# EAGLE library part HOST-CONNECTOR (library MH-Anybus)
Host Connector Der Host Connector ist eine um 90° gewinkelte Pinleiste mit 50 Pins. Er erlaubt das implemenieren von Modulen der CompactCom M30 und M40 Reihe von Anybus auf eine Leiterplatte.
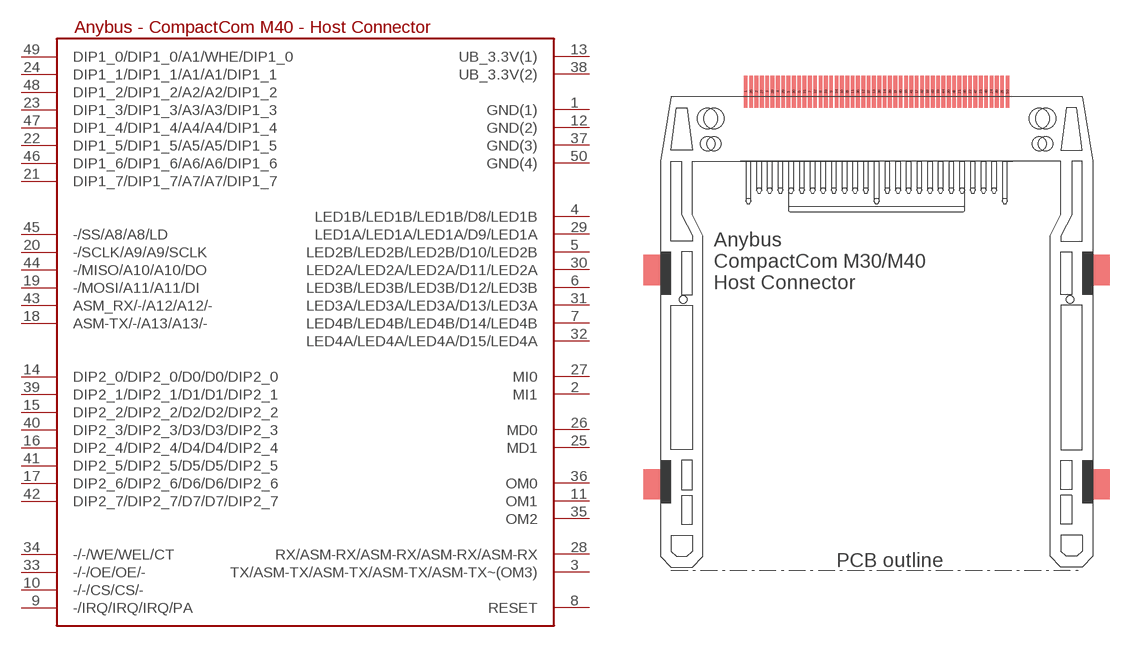
[diagram p0: symbol with the pads of HOST-CONNECTOR; footprint HOST-CONNECTOR]

Designator prefix -

## HOST-CONNECTOR  [HOST-CONNECTOR]
1  GND(1)  sup
2  MI1  out
3  TX/ASM-TX/ASM-TX/ASM-TX/ASM-TX~(OM3)  out
4  LED1B/LED1B/LED1B/D8/LED1B
5  LED2B/LED2B/LED2B/D10/LED2B
6  LED3B/LED3B/LED3B/D12/LED3B
7  LED4B/LED4B/LED4B/D14/LED4B
8  RESET  in
9  -/IRQ/IRQ/IRQ/PA  out
10  -/-/CS/CS/-  in
11  OM1  in
12  GND(2)  sup
13  UB_3.3V(1)  sup
14  DIP2_0/DIP2_0/D0/D0/DIP2_0
15  DIP2_2/DIP2_2/D2/D2/DIP2_2
16  DIP2_4/DIP2_4/D4/D4/DIP2_4
17  DIP2_6/DIP2_6/D6/D6/DIP2_6
18  ASM-TX/-/A13/A13/-
19  -/MOSI/A11/A11/DI  in
20  -/SCLK/A9/A9/SCLK
21  DIP1_7/DIP1_7/A7/A7/DIP1_7  in
22  DIP1_5/DIP1_5/A5/A5/DIP1_5  in
23  DIP1_3/DIP1_3/A3/A3/DIP1_3  in
24  DIP1_1/DIP1_1/A1/A1/DIP1_1  in
25  MD1  out
26  MD0  out
27  MI0  out
28  RX/ASM-RX/ASM-RX/ASM-RX/ASM-RX  in
29  LED1A/LED1A/LED1A/D9/LED1A
30  LED2A/LED2A/LED2A/D11/LED2A
31  LED3A/LED3A/LED3A/D13/LED3A
32  LED4A/LED4A/LED4A/D15/LED4A
33  -/-/OE/OE/-  in
34  -/-/WE/WEL/CT
35  OM2  in
36  OM0  in
37  GND(3)  sup
38  UB_3.3V(2)  sup
39  DIP2_1/DIP2_1/D1/D1/DIP2_1
40  DIP2_3/DIP2_3/D3/D3/DIP2_3
41  DIP2_5/DIP2_5/D5/D5/DIP2_5
42  DIP2_7/DIP2_7/D7/D7/DIP2_7
43  ASM_RX/-/A12/A12/-  in
44  -/MISO/A10/A10/DO
45  -/SS/A8/A8/LD  in
46  DIP1_6/DIP1_6/A6/A6/DIP1_6  in
47  DIP1_4/DIP1_4/A4/A4/DIP1_4  in
48  DIP1_2/DIP1_2/A2/A2/DIP1_2  in
49  DIP1_0/DIP1_0/A1/WHE/DIP1_0  in
50  GND(4)  sup

## Footprint HOST-CONNECTOR (pad centres in mm)
Host Connector Der Host Connector ist eine um 90° gewinkelte Pinleiste mit 50 Pins. Er erlaubt das implemenieren von Modulen der CompactCom M30 und M40 Reihe von Anybus auf eine Leiterplatte.
smd 0.45 x 3.8: 1 0,-1.905; 2 1.27,-1.905; 3 2.54,-1.905; 4 3.81,-1.905; 5 5.08,-1.905; 6 6.35,-1.905; 7 7.62,-1.905; 8 8.89,-1.905; 9 10.16,-1.905; 10 11.43,-1.905; 11 12.7,-1.905; 12 13.97,-1.905; 13 15.24,-1.905; 14 16.51,-1.905; 15 17.78,-1.905; 16 19.05,-1.905; 17 20.32,-1.905; 18 21.59,-1.905; 19 22.86,-1.905; 20 24.13,-1.905; 21 25.4,-1.905; 22 26.67,-1.905; 23 27.94,-1.905; 24 29.21,-1.905; 25 30.48,-1.905; 26 0.635,-1.905; 27 1.905,-1.905; 28 3.175,-1.905; 29 4.445,-1.905; 30 5.715,-1.905; 31 6.985,-1.905; 32 8.255,-1.905; 33 9.525,-1.905; 34 10.795,-1.905; 35 12.065,-1.905; 36 13.335,-1.905; 37 14.605,-1.905; 38 15.875,-1.905; 39 17.145,-1.905; 40 18.415,-1.905; 41 19.685,-1.905; 42 20.955,-1.905; 43 22.225,-1.905; 44 23.495,-1.905; 45 24.765,-1.905; 46 26.035,-1.905; 47 27.305,-1.905; 48 28.575,-1.905; 49 29.845,-1.905; 50 31.115,-1.905
hole 1.7 at 34.907,-8.1
hole 1.7 at 35.657,-8.1
hole 2.4 at 34.907,-5.1
hole 2.4 at 35.657,-5.1
hole 1.7 at 35.657,-8.1
hole 1.7 at 34.907,-8.1
hole 2.4 at 35.657,-5.1
hole 2.4 at 34.907,-5.1
hole 1.7 at -3.792,-8.1
hole 1.7 at -4.543,-8.1
hole 2.4 at -3.792,-5.1
hole 2.4 at -4.543,-5.1
hole 0.9 at 38.557,-26.6
hole 0.9 at -7.442,-26.6
hole 1.7 at 34.907,-8.1
hole 1.7 at 35.657,-8.1
hole 2.4 at 34.907,-5.1
hole 2.4 at 35.657,-5.1
hole 0.9 at 38.557,-26.6